# EAGLE library part ATMEGA644P (library anton)
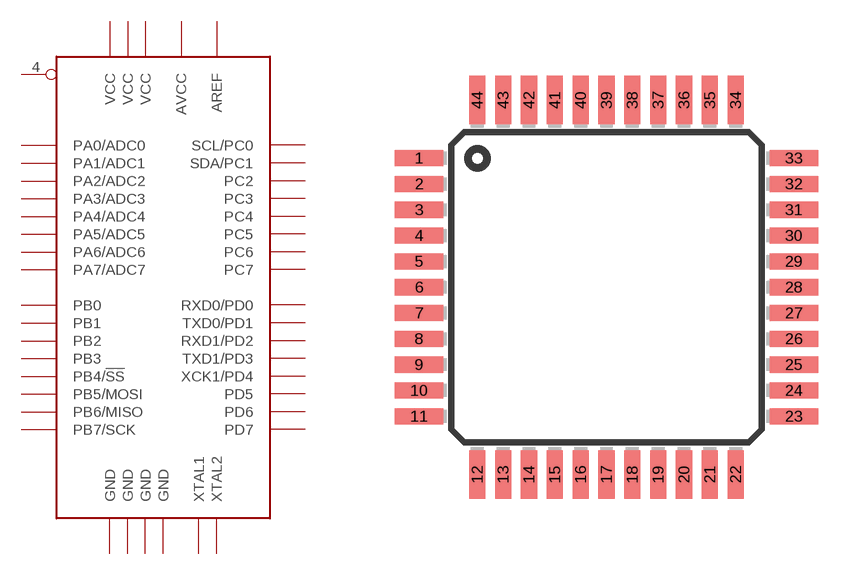
[diagram p3: symbol with the pads of TQFP44; footprint TQFP44]

Designator prefix IC

## ATMEGA644P  [TQFP44]
1  PB5/MOSI
2  PB6/MISO
3  PB7/SCK
4  RESET  in
5  VCC  pwr
6  GND  pwr
7  XTAL2  pas
8  XTAL1  pas
9  RXD0/PD0
10  TXD0/PD1
11  RXD1/PD2
12  TXD1/PD3
13  XCK1/PD4
14  PD5
15  PD6
16  PD7
17  VCC  pwr
18  GND  pwr
19  SCL/PC0
20  SDA/PC1
21  PC2
22  PC3
23  PC4
24  PC5
25  PC6
26  PC7
27  AVCC  pwr
28  GND  pwr
29  AREF  pwr
30  PA7/ADC7
31  PA6/ADC6
32  PA5/ADC5
33  PA4/ADC4
34  PA3/ADC3
35  PA2/ADC2
36  PA1/ADC1
37  PA0/ADC0
38  VCC  pwr
39  GND  pwr
40  PB0
41  PB1
42  PB2
43  PB3
44  PB4/!SS

## Footprint TQFP44 (pad centres in mm)
Thin Quad Flat Pack package type TQ
smd 1.5 x 0.5: 1 -5.8,4; 2 -5.8,3.2; 3 -5.8,2.4; 4 -5.8,1.6; 5 -5.8,0.8; 6 -5.8,0; 7 -5.8,-0.8; 8 -5.8,-1.6; 9 -5.8,-2.4; 10 -5.8,-3.2; 11 -5.8,-4; 23 5.8,-4; 24 5.8,-3.2; 25 5.8,-2.4; 26 5.8,-1.6; 27 5.8,-0.8; 28 5.8,0; 29 5.8,0.8; 30 5.8,1.6; 31 5.8,2.4; 32 5.8,3.2; 33 5.8,4
smd 0.5 x 1.5: 12 -4,-5.8; 13 -3.2,-5.8; 14 -2.4,-5.8; 15 -1.6,-5.8; 16 -0.8,-5.8; 17 0,-5.8; 18 0.8,-5.8; 19 1.6,-5.8; 20 2.4,-5.8; 21 3.2,-5.8; 22 4,-5.8; 34 4,5.8; 35 3.2,5.8; 36 2.4,5.8; 37 1.6,5.8; 38 0.8,5.8; 39 0,5.8; 40 -0.8,5.8; 41 -1.6,5.8; 42 -2.4,5.8; 43 -3.2,5.8; 44 -4,5.8